# EAGLE library part ALLSERIALMASTER (library AllSerialv2)
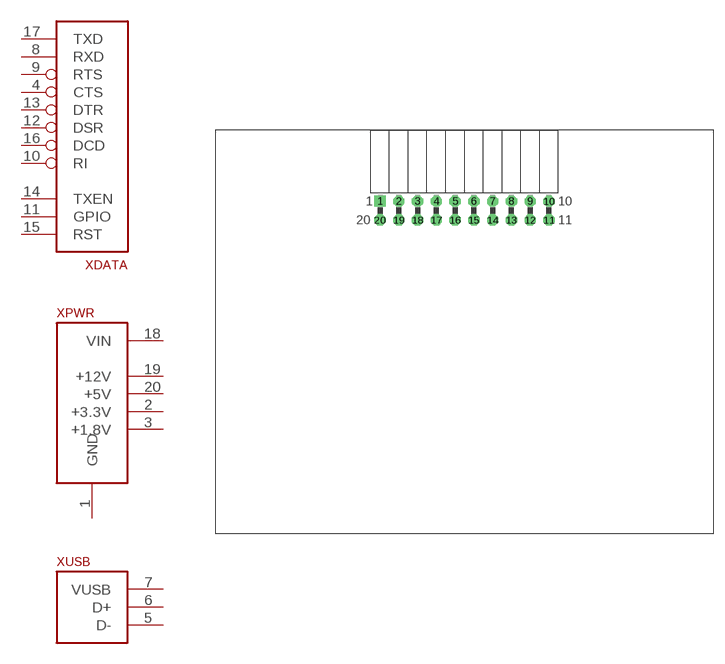
[diagram p0: symbol with the pads of MAIN-THT; footprint MAIN-THT]

Designator prefix X; gates PWR=ALLSERIALSUP USB=ALLSERIALUSB DATA=ALLSERIALDATA_MASTER

## ALLSERIALMASTERMM  [MAIN-THT]
1  PWR:GND
2  PWR:+3.3V
3  PWR:+1.8V
4  DATA:CTS  out
5  USB:D-
6  USB:D+
7  USB:VUSB
8  DATA:RXD  out
9  DATA:RTS  in
10  DATA:RI  out
11  DATA:GPIO
12  DATA:DSR  out
13  DATA:DTR  in
14  DATA:TXEN  in
15  DATA:RST
16  DATA:DCD  out
17  DATA:TXD  in
18  PWR:VIN
19  PWR:+12V
20  PWR:+5V

## Footprint MAIN-THT (pad centres in mm)
AllSerial mainboard with female pin header Enclosure Fischer AKG 71 24 100
drill 1.016 square: 1 -11.43,45.085
drill 1.016 octagon: 2 -8.89,45.085; 3 -6.35,45.085; 4 -3.81,45.085; 5 -1.27,45.085; 6 1.27,45.085; 7 3.81,45.085; 8 6.35,45.085; 9 8.89,45.085; 10 11.43,45.085; 11 11.43,42.545; 12 8.89,42.545; 13 6.35,42.545; 14 3.81,42.545; 15 1.27,42.545; 16 -1.27,42.545; 17 -3.81,42.545; 18 -6.35,42.545; 19 -8.89,42.545; 20 -11.43,42.545